# Altium schematic symbol library IDC-2X5.Schlib: 1 symbol
Pins are listed as number, name and electrical type; pins without a type are passive.

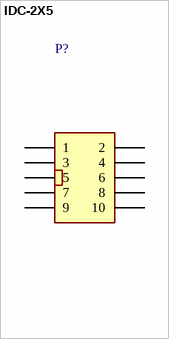
[diagram p0: symbol IDC-2X5]

## IDC-2X5
designator P?
2X5 IDC Connector
pins: 1, 2, 3, 4, 5, 6, 7, 8, 9, 10